# Altium footprint library amd-mach.PCBLIB: 14 footprints (part 2 of 2)
Each footprint in its own frame and in the unit in brackets; x right, y up, seen from the top. Pads: shape width x height; smd on the part's side, far side on the other; paste and mask are expansions set on the pad; w line width, h text height; cw(c..) or ccw(c..) is an arc to the next point about the centre after c.
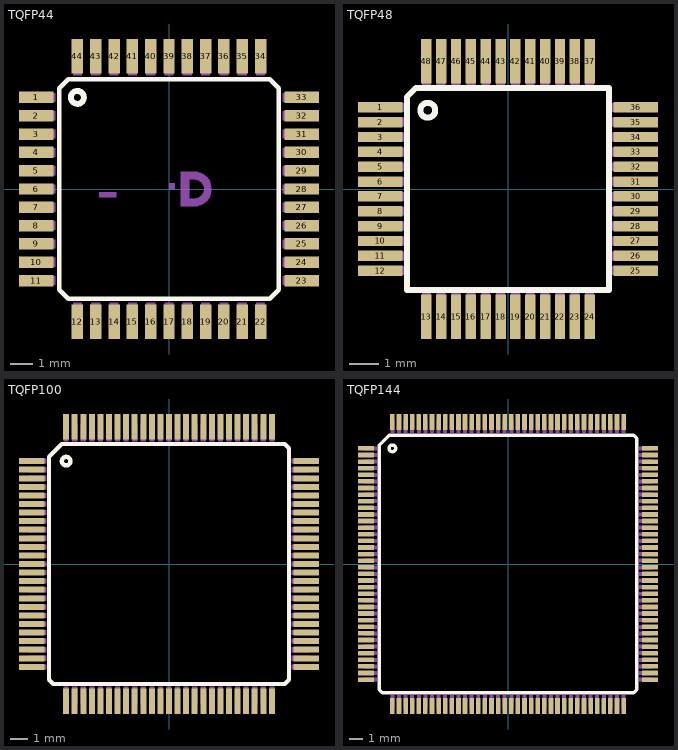
[diagram p1: the footprints below, top view; thin cyan lines are the x and y axes]

## TQFP44 [mm]
pads (44):
  rect 1.5x0.5 smd: 1(-5.8,4) 2(-5.8,3.2) 3(-5.8,2.4) 4(-5.8,1.6) 5(-5.8,0.8) 6(-5.8,0) 7(-5.8,-0.8) 8(-5.8,-1.6) 9(-5.8,-2.4) 10(-5.8,-3.2) 11(-5.8,-4) 23(5.8,-4) 24(5.8,-3.2) 25(5.8,-2.4) 26(5.8,-1.6) 27(5.8,-0.8) 28(5.8,0) 29(5.8,0.8) 30(5.8,1.6) 31(5.8,2.4) 32(5.8,3.2) 33(5.8,4)
  rect 0.5x1.5 smd: 12(-4,-5.8) 13(-3.2,-5.8) 14(-2.4,-5.8) 15(-1.6,-5.8) 16(-0.8,-5.8) 17(0,-5.8) 18(0.8,-5.8) 19(1.6,-5.8) 20(2.4,-5.8) 21(3.2,-5.8) 22(4,-5.8) 34(4,5.8) 35(3.2,5.8) 36(2.4,5.8) 37(1.6,5.8) 38(0.8,5.8) 39(0,5.8) 40(-0.8,5.8) 41(-1.6,5.8) 42(-2.4,5.8) 43(-3.2,5.8) 44(-4,5.8)
Top Overlay:
  circle w0.254: c-4,4 r0.283
  lines w0.203: -4.8,-4.4 -4.4,-4.8 4.4,-4.8 4.8,-4.4 4.8,4.4 4.4,4.8 -4.4,4.8 -4.8,4.4 -4.8,-4.4
Mechanical 16:
  rectangle: -6.1,3.8 -4.95,4.2
  rectangle: -6.1,3 -4.95,3.4
  rectangle: -6.1,2.2 -4.95,2.6
  rectangle: -6.1,1.4 -4.95,1.8
  rectangle: -6.1,0.6 -4.95,1
  rectangle: -6.1,-0.2 -4.95,0.2
  rectangle: -6.1,-1 -4.95,-0.6
  rectangle: -6.1,-1.8 -4.95,-1.4
  rectangle: -6.1,-2.6 -4.95,-2.2
  rectangle: -6.1,-3.4 -4.95,-3
  rectangle: -6.1,-4.2 -4.95,-3.8
  rectangle: -4.2,-6.1 -3.8,-4.95
  rectangle: -3.4,-6.1 -3,-4.95
  rectangle: -2.6,-6.1 -2.2,-4.95
  rectangle: -1.8,-6.1 -1.4,-4.95
  rectangle: -1,-6.1 -0.6,-4.95
  rectangle: -0.2,-6.1 0.2,-4.95
  rectangle: 0.6,-6.1 1,-4.95
  rectangle: 1.4,-6.1 1.8,-4.95
  rectangle: 2.2,-6.1 2.6,-4.95
  rectangle: 3,-6.1 3.4,-4.95
  rectangle: 3.8,-6.1 4.2,-4.95
  rectangle: 4.95,-4.2 6.1,-3.8
  rectangle: 4.95,-3.4 6.1,-3
  rectangle: 4.95,-2.6 6.1,-2.2
  rectangle: 4.95,-1.8 6.1,-1.4
  rectangle: 4.95,-1 6.1,-0.6
  rectangle: 4.95,-0.2 6.1,0.2
  rectangle: 4.95,0.6 6.1,1
  rectangle: 4.95,1.4 6.1,1.8
  rectangle: 4.95,2.2 6.1,2.6
  rectangle: 4.95,3 6.1,3.4
  rectangle: 4.95,3.8 6.1,4.2
  rectangle: 3.8,4.95 4.2,6.1
  rectangle: 3,4.95 3.4,6.1
  rectangle: 2.2,4.95 2.6,6.1
  rectangle: 1.4,4.95 1.8,6.1
  rectangle: 0.6,4.95 1,6.1
  rectangle: -0.2,4.95 0.2,6.1
  rectangle: -1,4.95 -0.6,6.1
  rectangle: -1.8,4.95 -1.4,6.1
  rectangle: -2.6,4.95 -2.2,6.1
  rectangle: -3.4,4.95 -3,6.1
  rectangle: -4.2,4.95 -3.8,6.1
  rectangle: 0.584,0.406 1.143,0.762
  rectangle: 0.584,-0.762 1.143,-0.406
  rectangle: -3.048,-0.381 -2.286,-0.127
  rectangle: 0.508,-0.762 0.889,0.762
  region: 0,0 0.254,0 0.254,0.254 0,0.254
  region: 0,0 0.254,0 0.254,0.254 0,0.254
  region: 0,0 0.254,0 0.254,0.254 0,0.254
  region: 0,0 0.254,0 0.254,0.254 0,0.254
  lines w0.051: 1.118,-0.737 ccw(c1.118,0) 1.118,0.737
  lines w0.203: 1.118,-0.635 ccw(c1.118,0) 1.118,0.635
  lines w0.254: 1.118,-0.533 ccw(c1.118,0) 1.118,0.533
  text "TQFP-44" at -2.785,-3.985 h0.94

## TQFP48 [mm]
pads (48):
  rect 1.5x0.35 smd: 1(-4.3,2.75) 2(-4.3,2.25) 3(-4.3,1.75) 4(-4.3,1.25) 5(-4.3,0.75) 6(-4.3,0.25) 7(-4.3,-0.25) 8(-4.3,-0.75) 9(-4.3,-1.25) 10(-4.3,-1.75) 11(-4.3,-2.25) 12(-4.3,-2.75) 25(4.3,-2.75) 26(4.3,-2.25) 27(4.3,-1.75) 28(4.3,-1.25) 29(4.3,-0.75) 30(4.3,-0.25) 31(4.3,0.25) 32(4.3,0.75) 33(4.3,1.25) 34(4.3,1.75) 35(4.3,2.25) 36(4.3,2.75)
  rect 0.35x1.5 smd: 13(-2.75,-4.3) 14(-2.25,-4.3) 15(-1.75,-4.3) 16(-1.25,-4.3) 17(-0.75,-4.3) 18(-0.25,-4.3) 19(0.25,-4.3) 20(0.75,-4.3) 21(1.25,-4.3) 22(1.75,-4.3) 23(2.25,-4.3) 24(2.75,-4.3) 37(2.75,4.3) 38(2.25,4.3) 39(1.75,4.3) 40(1.25,4.3) 41(0.75,4.3) 42(0.25,4.3) 43(-0.25,4.3) 44(-0.75,4.3) 45(-1.25,4.3) 46(-1.75,4.3) 47(-2.25,4.3) 48(-2.75,4.3)
Top Overlay:
  circle w0.203: c-2.7,2.65 r0.25
  lines w0.203: -3.4,-3.4 3.4,-3.4 3.4,3.4 -3.1,3.4 -3.4,3.1 -3.4,-3.4
Mechanical 16:
  rectangle: -4.5,2.6 -3.45,2.9
  rectangle: -4.5,2.1 -3.45,2.4
  rectangle: -4.5,1.6 -3.45,1.9
  rectangle: -4.5,1.1 -3.45,1.4
  rectangle: -4.5,0.6 -3.45,0.9
  rectangle: -4.5,0.1 -3.45,0.4
  rectangle: -4.5,-0.4 -3.45,-0.1
  rectangle: -4.5,-0.9 -3.45,-0.6
  rectangle: -4.5,-1.4 -3.45,-1.1
  rectangle: -4.5,-1.9 -3.45,-1.6
  rectangle: -4.5,-2.4 -3.45,-2.1
  rectangle: -4.5,-2.9 -3.45,-2.6
  rectangle: -2.9,-4.5 -2.6,-3.45
  rectangle: -2.4,-4.5 -2.1,-3.45
  rectangle: -1.9,-4.5 -1.6,-3.45
  rectangle: -1.4,-4.5 -1.1,-3.45
  rectangle: -0.9,-4.5 -0.6,-3.45
  rectangle: -0.4,-4.5 -0.1,-3.45
  rectangle: 0.1,-4.5 0.4,-3.45
  rectangle: 0.6,-4.5 0.9,-3.45
  rectangle: 1.1,-4.5 1.4,-3.45
  rectangle: 1.6,-4.5 1.9,-3.45
  rectangle: 2.1,-4.5 2.4,-3.45
  rectangle: 2.6,-4.5 2.9,-3.45
  rectangle: 3.45,-2.9 4.5,-2.6
  rectangle: 3.45,-2.4 4.5,-2.1
  rectangle: 3.45,-1.9 4.5,-1.6
  rectangle: 3.45,-1.4 4.5,-1.1
  rectangle: 3.45,-0.9 4.5,-0.6
  rectangle: 3.45,-0.4 4.5,-0.1
  rectangle: 3.45,0.1 4.5,0.4
  rectangle: 3.45,0.6 4.5,0.9
  rectangle: 3.45,1.1 4.5,1.4
  rectangle: 3.45,1.6 4.5,1.9
  rectangle: 3.45,2.1 4.5,2.4
  rectangle: 3.45,2.6 4.5,2.9
  rectangle: 2.6,3.45 2.9,4.5
  rectangle: 2.1,3.45 2.4,4.5
  rectangle: 1.6,3.45 1.9,4.5
  rectangle: 1.1,3.45 1.4,4.5
  rectangle: 0.6,3.45 0.9,4.5
  rectangle: 0.1,3.45 0.4,4.5
  rectangle: -0.4,3.45 -0.1,4.5
  rectangle: -0.9,3.45 -0.6,4.5
  rectangle: -1.4,3.45 -1.1,4.5
  rectangle: -1.9,3.45 -1.6,4.5
  rectangle: -2.4,3.45 -2.1,4.5
  rectangle: -2.9,3.45 -2.6,4.5
  text "TQFP 48" at -2.81,-2.48 h1.26

## TQFP100 [mm]
pads (100):
  rect 1.5x0.35 smd: 1(-8,6) 2(-8,5.5) 3(-8,5) 4(-8,4.5) 5(-8,4) 6(-8,3.5) 7(-8,3) 8(-8,2.5) 9(-8,2) 10(-8,1.5) 11(-8,1) 12(-8,0.5) 13(-8,0) 14(-8,-0.5) 15(-8,-1) 16(-8,-1.5) 17(-8,-2) 18(-8,-2.5) 19(-8,-3) 20(-8,-3.5) 21(-8,-4) 22(-8,-4.5) 23(-8,-5) 24(-8,-5.5) 25(-8,-6) 51(8,-6) 52(8,-5.5) 53(8,-5) 54(8,-4.5) 55(8,-4) 56(8,-3.5) 57(8,-3) 58(8,-2.5) 59(8,-2) 60(8,-1.5) 61(8,-1) 62(8,-0.5) 63(8,0) 64(8,0.5) 65(8,1) 66(8,1.5) 67(8,2) 68(8,2.5) 69(8,3) 70(8,3.5) 71(8,4) 72(8,4.5) 73(8,5) 74(8,5.5) 75(8,6)
  rect 0.35x1.5 smd: 26(-6,-8) 27(-5.5,-8) 28(-5,-8) 29(-4.5,-8) 30(-4,-8) 31(-3.5,-8) 32(-3,-8) 33(-2.5,-8) 34(-2,-8) 35(-1.5,-8) 36(-1,-8) 37(-0.5,-8) 38(0,-8) 39(0.5,-8) 40(1,-8) 41(1.5,-8) 42(2,-8) 43(2.5,-8) 44(3,-8) 45(3.5,-8) 46(4,-8) 47(4.5,-8) 48(5,-8) 49(5.5,-8) 50(6,-8) 76(6,8) 77(5.5,8) 78(5,8) 79(4.5,8) 80(4,8) 81(3.5,8) 82(3,8) 83(2.5,8) 84(2,8) 85(1.5,8) 86(1,8) 87(0.5,8) 88(0,8) 89(-0.5,8) 90(-1,8) 91(-1.5,8) 92(-2,8) 93(-2.5,8) 94(-3,8) 95(-3.5,8) 96(-4,8) 97(-4.5,8) 98(-5,8) 99(-5.5,8) 100(-6,8)
Top Overlay:
  circle w0.254: c-6,6 r0.25
  lines w0.254: -7,-6.75 -6.75,-7 6.75,-7 7,-6.75 7,6.75 6.75,7 -6.25,7 -7,6.25 -7,-6.75
Mechanical 16:
  rectangle: -8.2,5.85 -7.15,6.15
  rectangle: -8.2,5.35 -7.15,5.65
  rectangle: -8.2,4.85 -7.15,5.15
  rectangle: -8.2,4.35 -7.15,4.65
  rectangle: -8.2,3.85 -7.15,4.15
  rectangle: -8.2,3.35 -7.15,3.65
  rectangle: -8.2,2.85 -7.15,3.15
  rectangle: -8.2,2.35 -7.15,2.65
  rectangle: -8.2,1.85 -7.15,2.15
  rectangle: -8.2,1.35 -7.15,1.65
  rectangle: -8.2,0.85 -7.15,1.15
  rectangle: -8.2,0.35 -7.15,0.65
  rectangle: -8.2,-0.15 -7.15,0.15
  rectangle: -8.2,-0.65 -7.15,-0.35
  rectangle: -8.2,-1.15 -7.15,-0.85
  rectangle: -8.2,-1.65 -7.15,-1.35
  rectangle: -8.2,-2.15 -7.15,-1.85
  rectangle: -8.2,-2.65 -7.15,-2.35
  rectangle: -8.2,-3.15 -7.15,-2.85
  rectangle: -8.2,-3.65 -7.15,-3.35
  rectangle: -8.2,-4.15 -7.15,-3.85
  rectangle: -8.2,-4.65 -7.15,-4.35
  rectangle: -8.2,-5.15 -7.15,-4.85
  rectangle: -8.2,-5.65 -7.15,-5.35
  rectangle: -8.2,-6.15 -7.15,-5.85
  rectangle: -6.15,-8.2 -5.85,-7.15
  rectangle: -5.65,-8.2 -5.35,-7.15
  rectangle: -5.15,-8.2 -4.85,-7.15
  rectangle: -4.65,-8.2 -4.35,-7.15
  rectangle: -4.15,-8.2 -3.85,-7.15
  rectangle: -3.65,-8.2 -3.35,-7.15
  rectangle: -3.15,-8.2 -2.85,-7.15
  rectangle: -2.65,-8.2 -2.35,-7.15
  rectangle: -2.15,-8.2 -1.85,-7.15
  rectangle: -1.65,-8.2 -1.35,-7.15
  rectangle: -1.15,-8.2 -0.85,-7.15
  rectangle: -0.65,-8.2 -0.35,-7.15
  rectangle: -0.15,-8.2 0.15,-7.15
  rectangle: 0.35,-8.2 0.65,-7.15
  rectangle: 0.85,-8.2 1.15,-7.15
  rectangle: 1.35,-8.2 1.65,-7.15
  rectangle: 1.85,-8.2 2.15,-7.15
  rectangle: 2.35,-8.2 2.65,-7.15
  rectangle: 2.85,-8.2 3.15,-7.15
  rectangle: 3.35,-8.2 3.65,-7.15
  rectangle: 3.85,-8.2 4.15,-7.15
  rectangle: 4.35,-8.2 4.65,-7.15
  rectangle: 4.85,-8.2 5.15,-7.15
  rectangle: 5.35,-8.2 5.65,-7.15
  rectangle: 5.85,-8.2 6.15,-7.15
  rectangle: 7.15,-6.15 8.2,-5.85
  rectangle: 7.15,-5.65 8.2,-5.35
  rectangle: 7.15,-5.15 8.2,-4.85
  rectangle: 7.15,-4.65 8.2,-4.35
  rectangle: 7.15,-4.15 8.2,-3.85
  rectangle: 7.15,-3.65 8.2,-3.35
  rectangle: 7.15,-3.15 8.2,-2.85
  rectangle: 7.15,-2.65 8.2,-2.35
  rectangle: 7.15,-2.15 8.2,-1.85
  rectangle: 7.15,-1.65 8.2,-1.35
  rectangle: 7.15,-1.15 8.2,-0.85
  rectangle: 7.15,-0.65 8.2,-0.35
  rectangle: 7.15,-0.15 8.2,0.15
  rectangle: 7.15,0.35 8.2,0.65
  rectangle: 7.15,0.85 8.2,1.15
  rectangle: 7.15,1.35 8.2,1.65
  rectangle: 7.15,1.85 8.2,2.15
  rectangle: 7.15,2.35 8.2,2.65
  rectangle: 7.15,2.85 8.2,3.15
  rectangle: 7.15,3.35 8.2,3.65
  rectangle: 7.15,3.85 8.2,4.15
  rectangle: 7.15,4.35 8.2,4.65
  rectangle: 7.15,4.85 8.2,5.15
  rectangle: 7.15,5.35 8.2,5.65
  rectangle: 7.15,5.85 8.2,6.15
  rectangle: 5.85,7.15 6.15,8.2
  rectangle: 5.35,7.15 5.65,8.2
  rectangle: 4.85,7.15 5.15,8.2
  rectangle: 4.35,7.15 4.65,8.2
  rectangle: 3.85,7.15 4.15,8.2
  rectangle: 3.35,7.15 3.65,8.2
  rectangle: 2.85,7.15 3.15,8.2
  rectangle: 2.35,7.15 2.65,8.2
  rectangle: 1.85,7.15 2.15,8.2
  rectangle: 1.35,7.15 1.65,8.2
  rectangle: 0.85,7.15 1.15,8.2
  rectangle: 0.35,7.15 0.65,8.2
  rectangle: -0.15,7.15 0.15,8.2
  rectangle: -0.65,7.15 -0.35,8.2
  rectangle: -1.15,7.15 -0.85,8.2
  rectangle: -1.65,7.15 -1.35,8.2
  rectangle: -2.15,7.15 -1.85,8.2
  rectangle: -2.65,7.15 -2.35,8.2
  rectangle: -3.15,7.15 -2.85,8.2
  rectangle: -3.65,7.15 -3.35,8.2
  rectangle: -4.15,7.15 -3.85,8.2
  rectangle: -4.65,7.15 -4.35,8.2
  rectangle: -5.15,7.15 -4.85,8.2
  rectangle: -5.65,7.15 -5.35,8.2
  rectangle: -6.15,7.15 -5.85,8.2
  text "TQFP 100" at -2.81,-2.48 h1.26

## TQFP144 [mm]
pads (144):
  rect 1.2x0.35 smd: 1(-10.75,8.75) 2(-10.75,8.25) 3(-10.75,7.75) 4(-10.75,7.25) 5(-10.75,6.75) 6(-10.75,6.25) 7(-10.75,5.75) 8(-10.75,5.25) 9(-10.75,4.75) 10(-10.75,4.25) 11(-10.75,3.75) 12(-10.75,3.25) 13(-10.75,2.75) 14(-10.75,2.25) 15(-10.75,1.75) 16(-10.75,1.25) 17(-10.75,0.75) 18(-10.75,0.25) 19(-10.75,-0.25) 20(-10.75,-0.75) 21(-10.75,-1.25) 22(-10.75,-1.75) 23(-10.75,-2.25) 24(-10.75,-2.75) 25(-10.75,-3.25) 26(-10.75,-3.75) 27(-10.75,-4.25) 28(-10.75,-4.75) 29(-10.75,-5.25) 30(-10.75,-5.75) 31(-10.75,-6.25) 32(-10.75,-6.75) 33(-10.75,-7.25) 34(-10.75,-7.75) 35(-10.75,-8.25) 36(-10.75,-8.75) 73(10.75,-8.75) 74(10.75,-8.25) 75(10.75,-7.75) 76(10.75,-7.25) 77(10.75,-6.75) 78(10.75,-6.25) 79(10.75,-5.75) 80(10.75,-5.25) 81(10.75,-4.75) 82(10.75,-4.25) 83(10.75,-3.75) 84(10.75,-3.25) 85(10.75,-2.75) 86(10.75,-2.25) 87(10.75,-1.75) 88(10.75,-1.25) 89(10.75,-0.75) 90(10.75,-0.25) 91(10.75,0.25) 92(10.75,0.75) 93(10.75,1.25) 94(10.75,1.75) 95(10.75,2.25) 96(10.75,2.75) 97(10.75,3.25) 98(10.75,3.75) 99(10.75,4.25) 100(10.75,4.75) 101(10.75,5.25) 102(10.75,5.75) 103(10.75,6.25) 104(10.75,6.75) 105(10.75,7.25) 106(10.75,7.75) 107(10.75,8.25) 108(10.75,8.75)
  rect 0.35x1.2 smd: 37(-8.75,-10.75) 38(-8.25,-10.75) 39(-7.75,-10.75) 40(-7.25,-10.75) 41(-6.75,-10.75) 42(-6.25,-10.75) 43(-5.75,-10.75) 44(-5.25,-10.75) 45(-4.75,-10.75) 46(-4.25,-10.75) 47(-3.75,-10.75) 48(-3.25,-10.75) 49(-2.75,-10.75) 50(-2.25,-10.75) 51(-1.75,-10.75) 52(-1.25,-10.75) 53(-0.75,-10.75) 54(-0.25,-10.75) 55(0.25,-10.75) 56(0.75,-10.75) 57(1.25,-10.75) 58(1.75,-10.75) 59(2.25,-10.75) 60(2.75,-10.75) 61(3.25,-10.75) 62(3.75,-10.75) 63(4.25,-10.75) 64(4.75,-10.75) 65(5.25,-10.75) 66(5.75,-10.75) 67(6.25,-10.75) 68(6.75,-10.75) 69(7.25,-10.75) 70(7.75,-10.75) 71(8.25,-10.75) 72(8.75,-10.75) 109(8.75,10.75) 110(8.25,10.75) 111(7.75,10.75) 112(7.25,10.75) 113(6.75,10.75) 114(6.25,10.75) 115(5.75,10.75) 116(5.25,10.75) 117(4.75,10.75) 118(4.25,10.75) 119(3.75,10.75) 120(3.25,10.75) 121(2.75,10.75) 122(2.25,10.75) 123(1.75,10.75) 124(1.25,10.75) 125(0.75,10.75) 126(0.25,10.75) 127(-0.25,10.75) 128(-0.75,10.75) 129(-1.25,10.75) 130(-1.75,10.75) 131(-2.25,10.75) 132(-2.75,10.75) 133(-3.25,10.75) 134(-3.75,10.75) 135(-4.25,10.75) 136(-4.75,10.75) 137(-5.25,10.75) 138(-5.75,10.75) 139(-6.25,10.75) 140(-6.75,10.75) 141(-7.25,10.75) 142(-7.75,10.75) 143(-8.25,10.75) 144(-8.75,10.75)
Top Overlay:
  circle w0.254: c-8.75,8.75 r0.25
  lines w0.254: -9.75,-9.5 -9.5,-9.75 9.5,-9.75 9.75,-9.5 9.75,9.5 9.5,9.75 -9,9.75 -9.75,9 -9.75,-9.5
Mechanical 16:
  rectangle: -10.95,8.6 -9.9,8.9
  rectangle: -10.95,8.1 -9.9,8.4
  rectangle: -10.95,7.6 -9.9,7.9
  rectangle: -10.95,7.1 -9.9,7.4
  rectangle: -10.95,6.6 -9.9,6.9
  rectangle: -10.95,6.1 -9.9,6.4
  rectangle: -10.95,5.6 -9.9,5.9
  rectangle: -10.95,5.1 -9.9,5.4
  rectangle: -10.95,4.6 -9.9,4.9
  rectangle: -10.95,4.1 -9.9,4.4
  rectangle: -10.95,3.6 -9.9,3.9
  rectangle: -10.95,3.1 -9.9,3.4
  rectangle: -10.95,2.6 -9.9,2.9
  rectangle: -10.95,2.1 -9.9,2.4
  rectangle: -10.95,1.6 -9.9,1.9
  rectangle: -10.95,1.1 -9.9,1.4
  rectangle: -10.95,0.6 -9.9,0.9
  rectangle: -10.95,0.1 -9.9,0.4
  rectangle: -10.95,-0.4 -9.9,-0.1
  rectangle: -10.95,-0.9 -9.9,-0.6
  rectangle: -10.95,-1.4 -9.9,-1.1
  rectangle: -10.95,-1.9 -9.9,-1.6
  rectangle: -10.95,-2.4 -9.9,-2.1
  rectangle: -10.95,-2.9 -9.9,-2.6
  rectangle: -10.95,-3.4 -9.9,-3.1
  rectangle: -10.95,-3.9 -9.9,-3.6
  rectangle: -10.95,-4.4 -9.9,-4.1
  rectangle: -10.95,-4.9 -9.9,-4.6
  rectangle: -10.95,-5.4 -9.9,-5.1
  rectangle: -10.95,-5.9 -9.9,-5.6
  rectangle: -10.95,-6.4 -9.9,-6.1
  rectangle: -10.95,-6.9 -9.9,-6.6
  rectangle: -10.95,-7.4 -9.9,-7.1
  rectangle: -10.95,-7.9 -9.9,-7.6
  rectangle: -10.95,-8.4 -9.9,-8.1
  rectangle: -10.95,-8.9 -9.9,-8.6
  rectangle: -8.9,-10.95 -8.6,-9.9
  rectangle: -8.4,-10.95 -8.1,-9.9
  rectangle: -7.9,-10.95 -7.6,-9.9
  rectangle: -7.4,-10.95 -7.1,-9.9
  rectangle: -6.9,-10.95 -6.6,-9.9
  rectangle: -6.4,-10.95 -6.1,-9.9
  rectangle: -5.9,-10.95 -5.6,-9.9
  rectangle: -5.4,-10.95 -5.1,-9.9
  rectangle: -4.9,-10.95 -4.6,-9.9
  rectangle: -4.4,-10.95 -4.1,-9.9
  rectangle: -3.9,-10.95 -3.6,-9.9
  rectangle: -3.4,-10.95 -3.1,-9.9
  rectangle: -2.9,-10.95 -2.6,-9.9
  rectangle: -2.4,-10.95 -2.1,-9.9
  rectangle: -1.9,-10.95 -1.6,-9.9
  rectangle: -1.4,-10.95 -1.1,-9.9
  rectangle: -0.9,-10.95 -0.6,-9.9
  rectangle: -0.4,-10.95 -0.1,-9.9
  rectangle: 0.1,-10.95 0.4,-9.9
  rectangle: 0.6,-10.95 0.9,-9.9
  rectangle: 1.1,-10.95 1.4,-9.9
  rectangle: 1.6,-10.95 1.9,-9.9
  rectangle: 2.1,-10.95 2.4,-9.9
  rectangle: 2.6,-10.95 2.9,-9.9
  rectangle: 3.1,-10.95 3.4,-9.9
  rectangle: 3.6,-10.95 3.9,-9.9
  rectangle: 4.1,-10.95 4.4,-9.9
  rectangle: 4.6,-10.95 4.9,-9.9
  rectangle: 5.1,-10.95 5.4,-9.9
  rectangle: 5.6,-10.95 5.9,-9.9
  rectangle: 6.1,-10.95 6.4,-9.9
  rectangle: 6.6,-10.95 6.9,-9.9
  rectangle: 7.1,-10.95 7.4,-9.9
  rectangle: 7.6,-10.95 7.9,-9.9
  rectangle: 8.1,-10.95 8.4,-9.9
  rectangle: 8.6,-10.95 8.9,-9.9
  rectangle: 9.9,-8.9 10.95,-8.6
  rectangle: 9.9,-8.4 10.95,-8.1
  rectangle: 9.9,-7.9 10.95,-7.6
  rectangle: 9.9,-7.4 10.95,-7.1
  rectangle: 9.9,-6.9 10.95,-6.6
  rectangle: 9.9,-6.4 10.95,-6.1
  rectangle: 9.9,-5.9 10.95,-5.6
  rectangle: 9.9,-5.4 10.95,-5.1
  rectangle: 9.9,-4.9 10.95,-4.6
  rectangle: 9.9,-4.4 10.95,-4.1
  rectangle: 9.9,-3.9 10.95,-3.6
  rectangle: 9.9,-3.4 10.95,-3.1
  rectangle: 9.9,-2.9 10.95,-2.6
  rectangle: 9.9,-2.4 10.95,-2.1
  rectangle: 9.9,-1.9 10.95,-1.6
  rectangle: 9.9,-1.4 10.95,-1.1
  rectangle: 9.9,-0.9 10.95,-0.6
  rectangle: 9.9,-0.4 10.95,-0.1
  rectangle: 9.9,0.1 10.95,0.4
  rectangle: 9.9,0.6 10.95,0.9
  rectangle: 9.9,1.1 10.95,1.4
  rectangle: 9.9,1.6 10.95,1.9
  rectangle: 9.9,2.1 10.95,2.4
  rectangle: 9.9,2.6 10.95,2.9
  rectangle: 9.9,3.1 10.95,3.4
  rectangle: 9.9,3.6 10.95,3.9
  rectangle: 9.9,4.1 10.95,4.4
  rectangle: 9.9,4.6 10.95,4.9
  rectangle: 9.9,5.1 10.95,5.4
  rectangle: 9.9,5.6 10.95,5.9
  rectangle: 9.9,6.1 10.95,6.4
  rectangle: 9.9,6.6 10.95,6.9
  rectangle: 9.9,7.1 10.95,7.4
  rectangle: 9.9,7.6 10.95,7.9
  rectangle: 9.9,8.1 10.95,8.4
  rectangle: 9.9,8.6 10.95,8.9
  rectangle: 8.6,9.9 8.9,10.95
  rectangle: 8.1,9.9 8.4,10.95
  rectangle: 7.6,9.9 7.9,10.95
  rectangle: 7.1,9.9 7.4,10.95
  rectangle: 6.6,9.9 6.9,10.95
  rectangle: 6.1,9.9 6.4,10.95
  rectangle: 5.6,9.9 5.9,10.95
  rectangle: 5.1,9.9 5.4,10.95
  rectangle: 4.6,9.9 4.9,10.95
  rectangle: 4.1,9.9 4.4,10.95
  rectangle: 3.6,9.9 3.9,10.95
  rectangle: 3.1,9.9 3.4,10.95
  rectangle: 2.6,9.9 2.9,10.95
  rectangle: 2.1,9.9 2.4,10.95
  rectangle: 1.6,9.9 1.9,10.95
  rectangle: 1.1,9.9 1.4,10.95
  rectangle: 0.6,9.9 0.9,10.95
  rectangle: 0.1,9.9 0.4,10.95
  rectangle: -0.4,9.9 -0.1,10.95
  rectangle: -0.9,9.9 -0.6,10.95
  rectangle: -1.4,9.9 -1.1,10.95
  rectangle: -1.9,9.9 -1.6,10.95
  rectangle: -2.4,9.9 -2.1,10.95
  rectangle: -2.9,9.9 -2.6,10.95
  rectangle: -3.4,9.9 -3.1,10.95
  rectangle: -3.9,9.9 -3.6,10.95
  rectangle: -4.4,9.9 -4.1,10.95
  rectangle: -4.9,9.9 -4.6,10.95
  rectangle: -5.4,9.9 -5.1,10.95
  rectangle: -5.9,9.9 -5.6,10.95
  rectangle: -6.4,9.9 -6.1,10.95
  rectangle: -6.9,9.9 -6.6,10.95
  rectangle: -7.4,9.9 -7.1,10.95
  rectangle: -7.9,9.9 -7.6,10.95
  rectangle: -8.4,9.9 -8.1,10.95
  rectangle: -8.9,9.9 -8.6,10.95
  text "TQFP 144" at -2.81,-3.23 h1.26